# Altium footprint library AiwacA33.PcbLib: 32 footprints (part 2 of 2)
Each footprint in its own frame and in the unit in brackets; x right, y up, seen from the top. Pads: shape width x height; smd on the part's side, far side on the other; paste and mask are expansions set on the pad; w line width, h text height; cw(c..) or ccw(c..) is an arc to the next point about the centre after c.
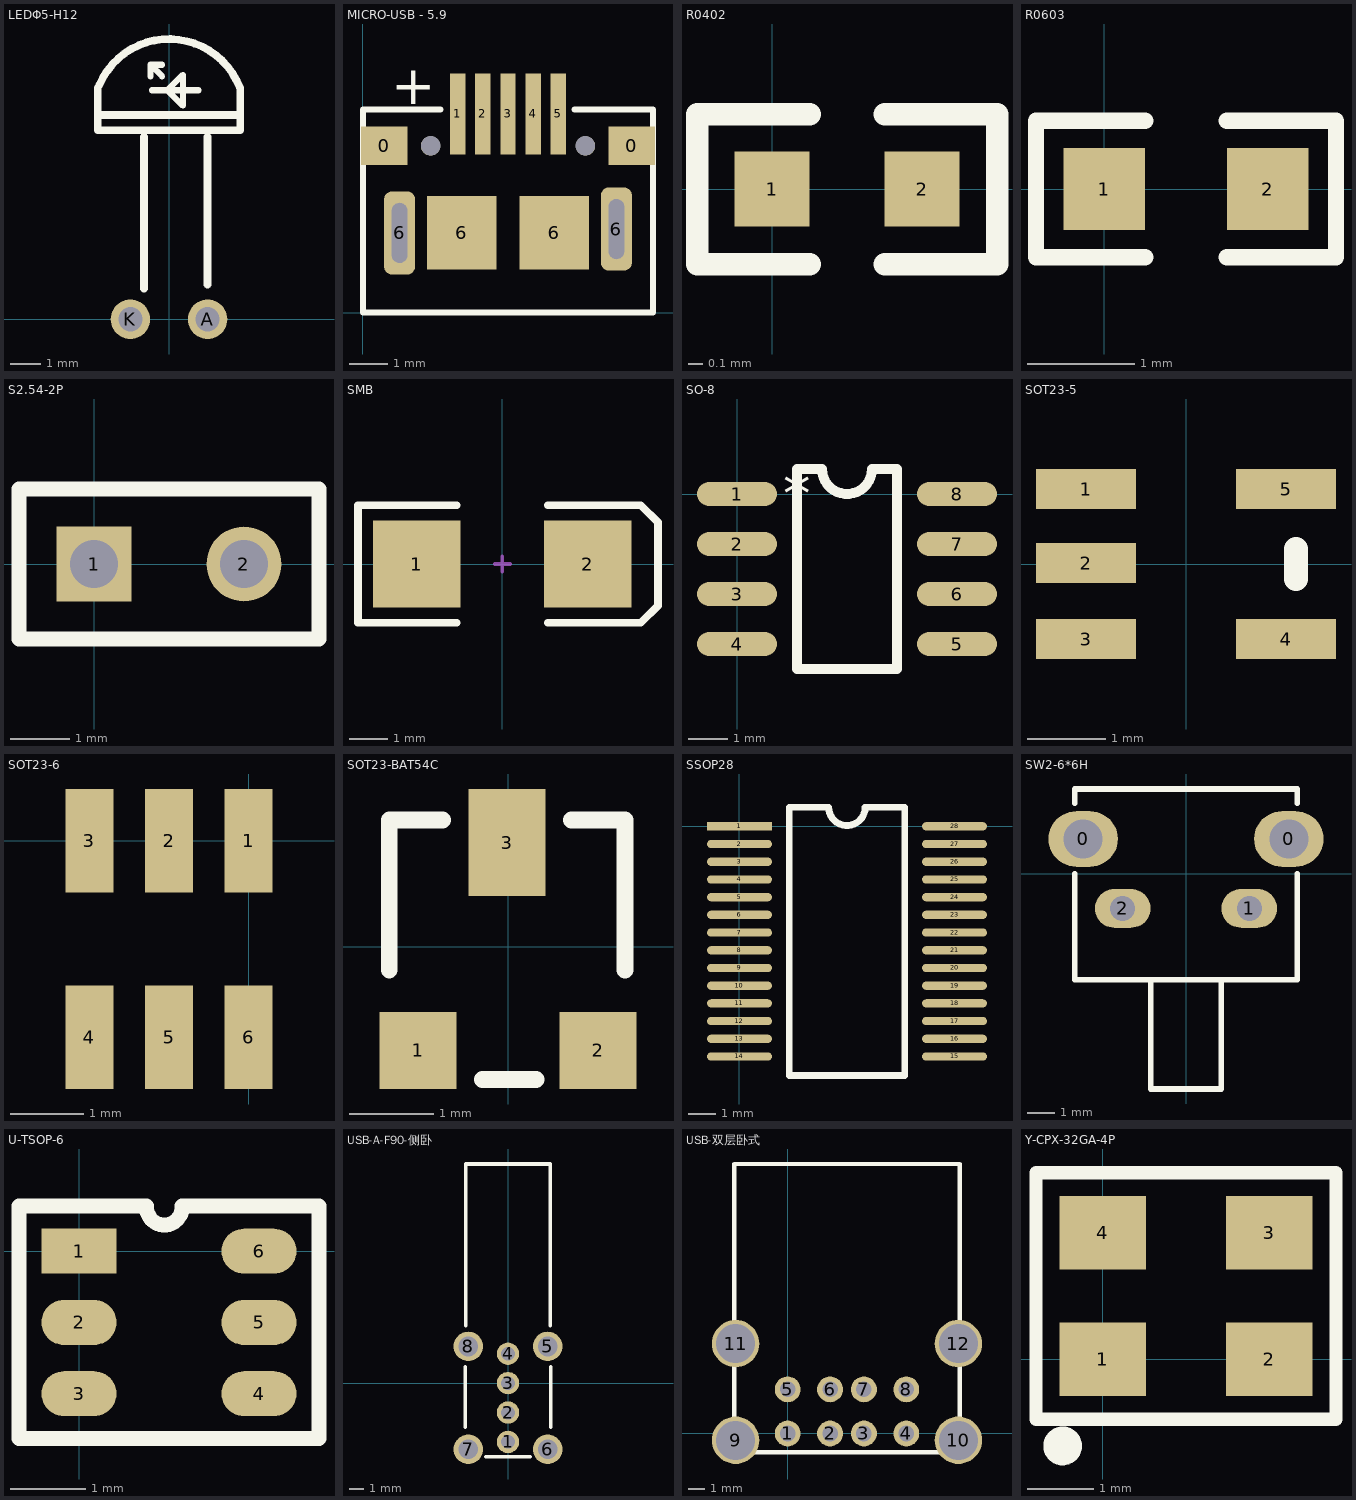
[diagram p1: the footprints below, top view; thin cyan lines are the x and y axes]

## LEDΦ5-H12 [mm] "LEDΦ5-12mm隔空90度插件"
height 12
pads (2):
  round 1.3 hole 0.8: A(1.27,0) K(-1.27,0)
Top Overlay:
  lines w0.2: -0.61,8.001 -0.61,8.382 ; -0.559,7.544 0.965,7.544 ; -0.229,8.001 -0.61,8.382 ; -0.229,8.382 -0.61,8.382 ; -0.051,7.544 0.457,7.036 0.457,8.052 -0.051,7.544
  lines w0.254: -2.35,7.62 -2.35,6.223 2.35,6.223 2.35,7.62 ; -2.298,7.716 cw(c0,6.731) 2.336,7.621 ; -2.286,6.731 2.286,6.731 ; -0.826,1.016 -0.826,6 ; 1.27,1.143 1.27,6

## MICRO-USB - 5.9 [mm]
pads (13):
  rect 1.2x1 smd: 0(0.55,4.307) 0(6.95,4.307)
  rect 0.4x2.1 smd: 1(2.45,5.132) 2(3.1,5.132) 3(3.75,5.132) 4(4.4,5.132) 5(5.05,5.132)
  rrect50% 0.8x2.15 hole 0.4 slot 1.55 at 90 deg: 6(0.95,2.057) 6(6.55,2.157)
  rect 1.8x1.9 smd: 6(2.556,2.057) 6(4.943,2.057)
  round 0.5 hole 0.5 unplated: ""(1.75,4.307) ""(5.75,4.307)
Top Overlay:
  lines w0.152: 2.007,5.25 0,5.25 0,0 7.5,0 7.5,5.25 5.469,5.25
  text "+" at 0.737,5.385 h1

## R0402 [mil]
height 10
pads (2):
  rect 20x20 smd: 1(0,0) 2(40,0)
Top Overlay:
  lines w6: 10,-20 -20,-20 -20,20 10,20 ; 30,-20 60,-20 60,20 30,20
3D body "R0402.STEP": height 13.78, standoff 0, extent 0.32,-10 39.69,9.68

## R0603 [mil]
height 12
pads (2):
  rect 30x30 smd: 1(0,0) 2(60,0)
Top Overlay:
  lines w6: 15,-25 -25,-25 -25,25 15,25 ; 45,-25 85,-25 85,25 45,25
3D body "R0603.STEP": height 17.72, standoff 0, extent -0.5,-16 62.5,15.5

## S2.54-2P [mil]
pads (2):
  rect 50x50 hole 32: 1(0,0)
  round 50 hole 32: 2(100,0)
Top Overlay:
  lines w10: -50,-50 -50,50 150,50 150,-50 -50,-50
3D body: height 314.96, standoff -78.74, extent 84,-16 115.37,15.43
3D body: height 314.96, standoff -78.74, extent -16,-16 15.37,15.43
3D body: height 100, standoff 0, extent -50,-50 150,50

## SMB [mm] "DO-214-AA/SMB; 2 C-Bend Leads; Body 5.3 x 3.6 mm, inc. leads (LxW)"
height 2.54
pads (2):
  rect 2.3x2.3 smd: 1(-2.25,0) 2(2.25,0)
Top Overlay:
  lines w0.2: -1.2,-1.55 -3.8,-1.55 -3.8,1.55 -1.2,1.55 ; 1.2,-1.55 3.65,-1.55 4.1,-1.1 4.1,1.1 3.65,1.55 1.2,1.55
Mechanical 1:
  lines w0.1: -0.2,0 0.2,0 ; 0,-0.2 0,0.2

## SO-8 [mil]
pads (8):
  oval 80x24 smd: 1(0,0) 2(0,-50) 3(0,-100) 4(0,-150) 5(220,-150) 6(220,-100) 7(220,-50) 8(220,0)
Top Overlay:
  lines w10: 60,-175 160,-175 160,25 135,25 cw(c110,25) 85,25 60,25 60,-175
  text "*" at 46,-19 h40

## SOT23-5 [mil]
pads (5):
  rect 50x20 smd: 1(-50,37.5) 2(-50,0.5) 3(-50,-37.5) 4(50,-37.5) 5(50,37.5)
Top Overlay:
  lines w12: 55,-7.5 55,7.5

## SOT23-6 [mil]
pads (6):
  rect 26x56 smd: 1(0,0) 2(-43,0) 3(-86,0) 4(-86,-106) 5(-43,-106) 6(0,-106)

## SOT23-BAT54C [mil]
pads (3):
  rect 36x36 smd: 1(-42,-48.5) 2(42,-48.5)
  rect 36x50 smd: 3(-0.44,48.5)
Top Overlay:
  lines w7.87: -55.44,-11 -55.44,59 -30.44,59 ; -12,-62.11 13,-62.11 ; 29.56,59 54.56,59 54.56,-11

## SSOP28 [mil]
pads (28):
  rect 94x12 smd: 1(0,0)
  oval 94x12 smd: 2(0,-25.6) 3(0,-51.2) 4(0,-76.8) 5(0,-102.4) 6(0,-128) 7(0,-153.6) 8(0,-179.2) 9(0,-204.8) 10(0,-230.4) 11(0,-256) 12(0,-281.6) 13(0,-307.2) 14(0,-332.8) 15(311,-332.8) 16(311,-307.2) 17(311,-281.6) 18(311,-256) 19(311,-230.4) 20(311,-204.8) 21(311,-179.2) 22(311,-153.6) 23(311,-128) 24(311,-102.4) 25(311,-76.8) 26(311,-51.2) 27(311,-25.6) 28(311,0)
Top Overlay:
  lines w10: 181.8,27.6 cw(c155.4,27.6) 129,27.6 72,27.6 72,-360.4 239,-360.4 239,27.6 182,27.6

## SW2-6*6H [mm] "2脚按键-6*6 横按"
height 1.2
pads (4):
  oval 2.5x2 hole 1.4: 0(-3.7,1.25) 0(3.7,1.25)
  oval 2x1.4 hole 0.9: 1(2.28,-1.25) 2(-2.28,-1.25)
Top Overlay:
  lines w0.2: -4,0 -4,-3.81 4,-3.81 4,0 ; -4,2.54 -4,3.048 3.937,3.048 ; 4,2.54 4,3.048 ; -1.27,-7.747 -1.27,-3.81 1.27,-3.81 1.27,-7.747 -1.27,-7.747
3D body: height 5.65, standoff 2.15, extent -1.757,-7.829 1.743,-3.429
3D body: height 2.5, standoff 1.5, extent 0.635,-0.254 3.683,0.127
3D body: height 7, standoff -1.5, extent 1.805,-1.504 2.694,-0.996
3D body: height 6.7, standoff 5.6, extent 0.635,-0.254 3.683,0.127
3D body: height 6.9, standoff 0.5, extent 0.635,-0.254 1.651,0.127
3D body: height 6.6, standoff 5.6, extent 1.786,-3.8 2.777,-2.804
3D body: height 2.4, standoff 1.4, extent 1.786,-3.8 2.777,-2.804
3D body: height 2.4, standoff 1.4, extent -2.777,-3.8 -1.786,-2.804
3D body: height 6.6, standoff 5.6, extent -2.777,-3.8 -1.786,-2.804
3D body: height 6.9, standoff 0.5, extent -1.651,-0.254 -0.635,0.127
3D body: height 6.7, standoff 5.6, extent -3.683,-0.254 -0.635,0.127
3D body: height 7, standoff -1.5, extent -2.694,-1.504 -1.805,-0.996
3D body: height 6.9, standoff 0, extent -3.683,-3.175 3.81,-0.254
3D body: height 7.1, standoff 0, extent -3.937,-3.429 4.064,3.048
3D body: height 2.5, standoff 1.5, extent -3.683,-0.254 -0.635,0.127
3D body: height 7, standoff -1.5, extent -3.937,0.826 -3.683,1.715
3D body: height 7, standoff -1.5, extent 3.683,0.826 3.937,1.715

## U-TSOP-6 [mm]
pads (6):
  rect 1x0.6 smd: 1(0,0)
  oval 1x0.6 smd: 2(0,-0.95) 3(0,-1.9) 4(2.4,-1.9) 5(2.4,-0.95) 6(2.4,0)
Top Overlay:
  lines w0.2: -0.8,-2.5 3.2,-2.5 3.2,0.6 1.375,0.6 cw(c1.138,0.587) 0.9,0.6 -0.8,0.6 -0.8,-2.5

## USB-A-F90-侧卧 [mm] "USB-A卧式插座2"
pads (8):
  round 1.524 hole 0.92: 1(0,-4) 2(0,-2) 3(0,0) 4(0,2)
  round 2 hole 1.35: 5(2.7,2.5) 6(2.7,-4.5) 7(-2.7,-4.5) 8(-2.7,2.5)
Top Overlay:
  lines w0.254: -2.9,-3 -2.9,1.1 ; -2.875,3.9 -2.875,14.9 2.875,14.9 2.875,3.9 ; -1.5,-5 1.5,-5 ; 2.9,-3 2.9,1.1

## USB-双层卧式 [mm] "USB-A卧式插座2"
pads (12):
  round 1.524 hole 0.92: 1(0,0) 2(2.5,0) 3(4.5,0) 4(7,0) 5(0,2.6) 6(2.5,2.6) 7(4.5,2.6) 8(7,2.6)
  round 2.8 hole 2.3: 9(-3.07,-0.4) 10(10.07,-0.4) 11(-3.07,5.3) 12(10.07,5.3)
Top Overlay:
  lines w0.254: -3.15,-1.1 -3.15,15.9 10.15,15.9 10.15,-1.1 -3.15,-1.1

## Y-CPX-32GA-4P [mm]
pads (4):
  rect 1.3x1.1 smd: 1(0,0) 2(2.5,0) 3(2.5,1.9) 4(0,1.9)
Top Overlay:
  circle w0.3: c-0.6,-1.3 r0.141
  lines w0.2: -1,-0.9 3.5,-0.9 3.5,2.8 -1,2.8 -1,0.4 -1,-0.9